# EAGLE library part 0430451008-MICROFIT3.0-R/A2X5 (library con-molex)
MICROFIT 3.0 RA HDR/CLIP DR 30AU
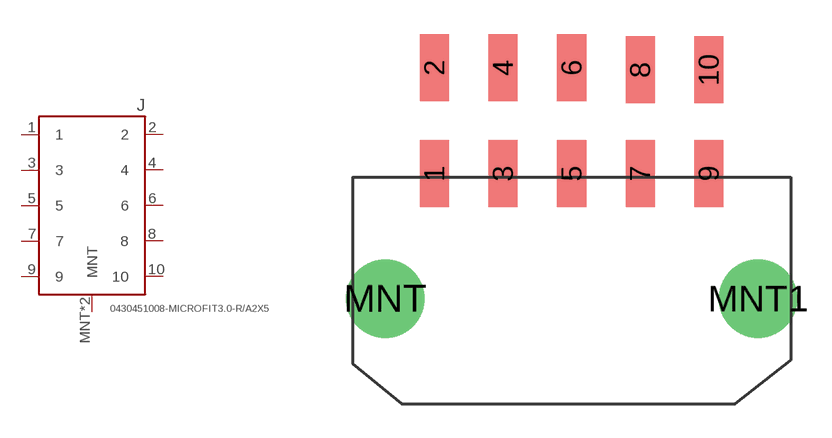
[diagram p7: symbol with the pads of 0430451008-MICROFIT3.0-RA-2X5; footprint 0430451008-MICROFIT3.0-RA-2X5]

Designator prefix J

## 0430451008-MICROFIT3.0-R/A2X5 (DIGIKEY: WM10741CT-ND; MFR: Molex; MPN: 0430451008)  [0430451008-MICROFIT3.0-RA-2X5]
1  1
2  2
3  3
4  4
5  5
6  6
7  7
8  8
9  9
10  10
MNT  MNT
MNT1  MNT

## Footprint 0430451008-MICROFIT3.0-RA-2X5 (pad centres in mm)
smd 1.27 x 2.92: 1 -6,5.47; 2 -6,10.1; 3 -3,5.47; 4 -3,10.1; 5 0,5.47; 6 0,10.1; 7 3,5.47; 8 3,10.01; 9 6,5.47; 10 6,10.01
drill 2.41: MNT -8.15,0; MNT1 8.15,0